# EAGLE library part P82B96TD,118 (library NXP_By_element14_Batch_1)
Dual bidirectional bus buffer
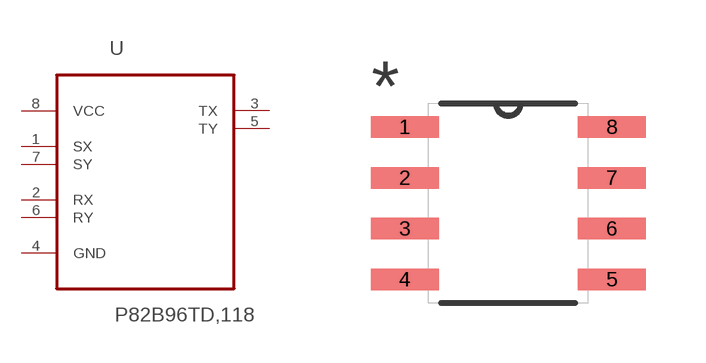
[diagram p398: symbol with the pads of SOIC127P600X175-8N; footprint SOIC127P600X175-8N]

Designator prefix U

## P82B96TD,118 (MPN: P82B96TD,118; OC_FARNELL: 1831235; OC_NEWARK: 70R8461; PACKAGE: SOIC-8; SUPPLIER: NXP)  [SOIC127P600X175-8N]
1  SX
2  RX  in
3  TX  out
4  GND  pas
5  TY  out
6  RY  in
7  SY
8  VCC  pwr

## Footprint SOIC127P600X175-8N (pad centres in mm)
smd 1.702 x 0.533: 1 -2.591,1.905; 2 -2.591,0.635; 3 -2.591,-0.635; 4 -2.591,-1.905; 5 2.591,-1.905; 6 2.591,-0.635; 7 2.591,0.635; 8 2.591,1.905